# Altium integrated library BNO055.IntLib: 1 symbol
Pins are listed as number, name and electrical type; pins without a type are passive.

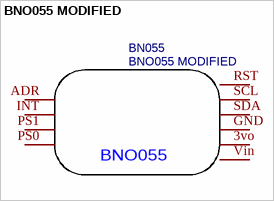
[diagram p0: symbol BNO055 MODIFIED]

## BNO055 MODIFIED
designator BN055
Contributor: abdussamet28051999; spicePre: U; spiceSymbolName: BNO055 MODIFIED
footprint BNO055
pins: 3vo, ADR, GND, INT, PS0, PS1, RST, SCL, SDA, Vin
text: BNO055